# EAGLE library part MA09 (library con-amp-quick)
AMP QUICK CONNECTOR
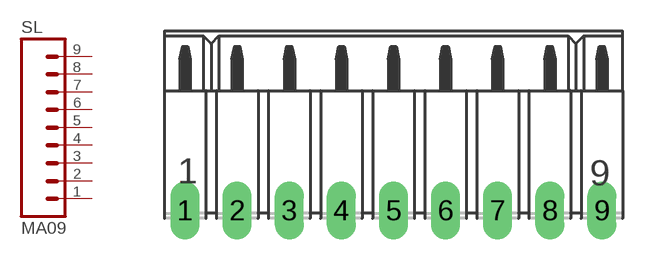
[diagram p42: symbol with the pads of 09PA; footprint 09PA]

Designator prefix SL

## MA09 (OC_FARNELL: unknown; OC_NEWARK: unknown)  [09PA]
1  1  pas
2  2  pas
3  3  pas
4  4  pas
5  5  pas
6  6  pas
7  7  pas
8  8  pas
9  9  pas

## Footprint 09PA (pad centres in mm)
AMP QUICK CONNECTOR
drill 0.914 long: 1 -10.16,0; 2 -7.62,0; 3 -5.08,0; 4 -2.54,0; 5 0,0; 6 2.54,0; 7 5.08,0; 8 7.62,0; 9 10.16,0